# EAGLE library part WS2818 (library ICs)
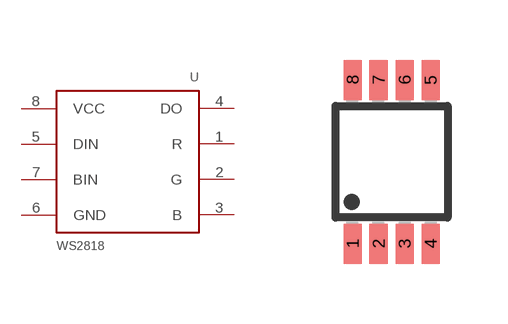
[diagram p1: symbol with the pads of MSOP8; footprint MSOP8]

Designator prefix -

## WS2818  [MSOP8]
1  R
2  G
3  B
4  DO
5  DIN
6  GND
7  BIN
8  VCC

## Footprint MSOP8 (pad centres in mm)
Micro Small Outline Package Grid .65mm
smd 0.45 x 1: 1 -0.975,-2.05; 2 -0.325,-2.05; 3 0.325,-2.05; 4 0.975,-2.05; 5 0.975,2.05; 6 0.325,2.05; 7 -0.325,2.05; 8 -0.975,2.05